# Altium schematic symbol library Switches.SchLib: 1 symbol
Pins are listed as number, name and electrical type; pins without a type are passive.

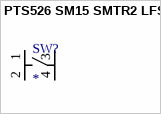
[diagram p0: symbol PTS526 SM15 SMTR2 LFS]

## PTS526 SM15 SMTR2 LFS
designator SW?
TACT 5.2 X 5.2, 1.5 MM H, 160GF, / SPST-NO Top Actuated Surface Mount
footprint PTS526SK15SMTR2LFS
pins: 1, 2, 3, 4